# Altium schematic symbol library Diode_Lumex_SML-LX0603GW-TR_eec.SchLib: 1 symbol
Pins are listed as number, name and electrical type; pins without a type are passive.

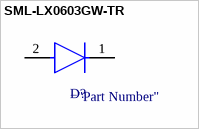
[diagram p0: symbol SML-LX0603GW-TR]

## SML-LX0603GW-TR
designator D?  (value not drawn)
pins: 1 C, 2 A